# EAGLE library part AM26LV32 (library 0SBLib)
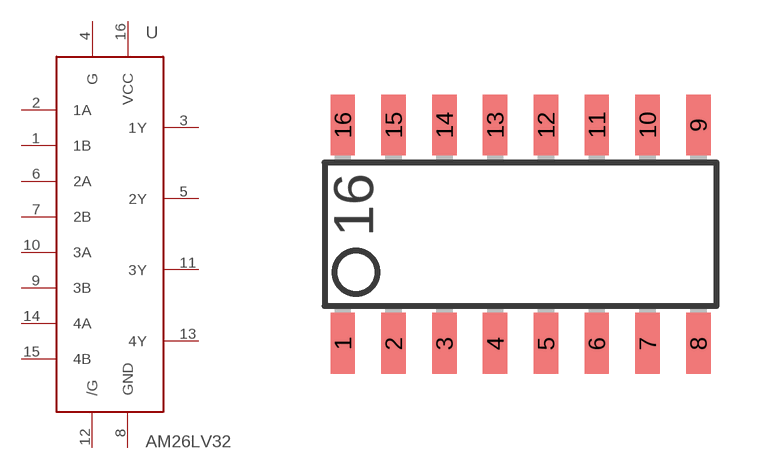
[diagram p25: symbol with the pads of SO-16; footprint SO-16]

Designator prefix -

## AM26LV32  [SO-16]
1  1B
2  1A
3  1Y
4  G
5  2Y
6  2A
7  2B
8  GND
9  3B
10  3A
11  3Y
12  /G
13  4Y
14  4A
15  4B
16  VCC

## Footprint SO-16 (pad centres in mm)
Small Outline Integrated Circuit
smd 0.61 x 1.524: 1 -4.445,-2.794; 2 -3.175,-2.794; 3 -1.905,-2.794; 4 -0.635,-2.794; 5 0.635,-2.794; 6 1.905,-2.794; 7 3.175,-2.794; 8 4.445,-2.794; 9 4.445,2.667; 10 3.175,2.667; 11 1.905,2.667; 12 0.635,2.667; 13 -0.635,2.667; 14 -1.905,2.667; 15 -3.175,2.667; 16 -4.445,2.667